# Altium schematic symbol library Connectors.SchLib: 4 symbols
Pins are listed as number, name and electrical type; pins without a type are passive.

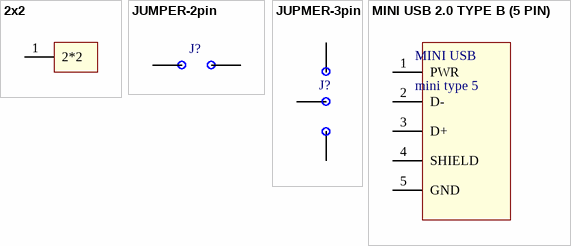
[diagram p0: symbols 2x2 to MINI USB 2.0 TYPE B (5 PIN)]

## 2x2
designator *  (value not drawn)
footprint 2*2
pins: 1 2*2

## JUMPER-2pin
designator J?  (value not drawn)
footprint JUMPER_2
pins: 1, 2

## JUPMER-3pin
designator J?  (value not drawn)
footprint JUMPER_3
pins: 1, 2, 3

## MINI USB 2.0 TYPE B (5 PIN)
designator MINI USB, comment mini type 5
footprint USB_MINI_B
pins: 1 PWR, 2 D-, 3 D+, 4 SHIELD, 5 GND